# Altium footprint library OSC-SMD_4P-L3.2-W2.5-BL.PcbLib: 1 footprints
Each footprint in its own frame and in the unit in brackets; x right, y up, seen from the top. Pads: shape width x height; smd on the part's side, far side on the other; paste and mask are expansions set on the pad; w line width, h text height; cw(c..) or ccw(c..) is an arc to the next point about the centre after c.
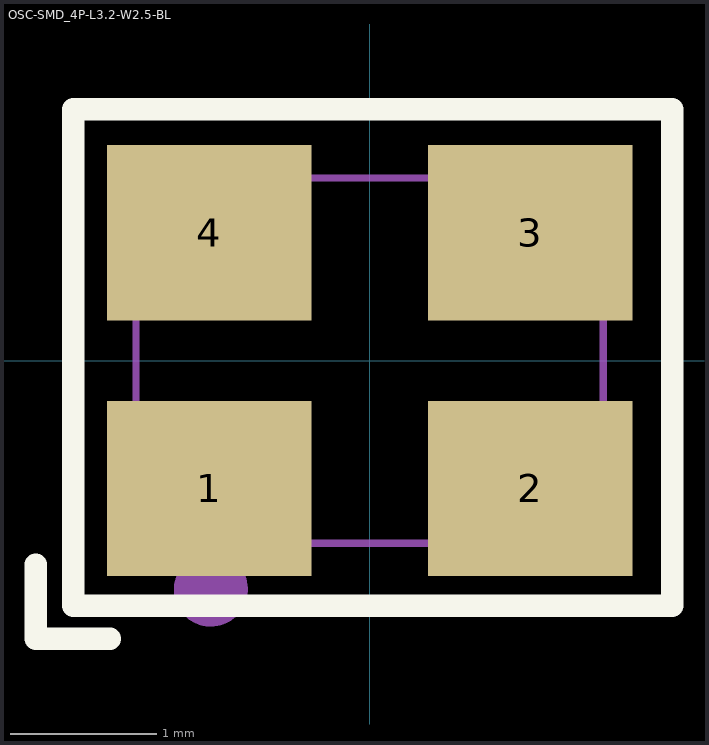
[diagram p0: the footprint, top view; thin cyan lines are the x and y axes]

## OSC-SMD_4P-L3.2-W2.5-BL [mm]
pads (4):
  rect 1.4x1.2 smd: 1(-1.1,-0.875) 2(1.1,-0.875) 3(1.1,0.875) 4(-1.1,0.875)
Top Overlay:
  lines w0.152: -2.286,-1.397 -2.286,-1.905 -1.778,-1.905 ; -2.029,-1.679 -2.029,1.721 2.071,1.721 2.071,-1.679 -2.029,-1.679
Mechanical 6:
  circle w0.254: c-1.088,-1.567 r0.127
  region: -1.486,-0.428 -1.45,-0.428 -1.45,-1.004 -1.486,-1.004
  region: -1.522,-0.428 -1.486,-0.428 -1.486,-1.004 -1.522,-1.004
  region: -1.558,-0.428 -1.522,-0.428 -1.522,-1.004 -1.558,-1.004
  region: -1.594,-0.464 -1.558,-0.464 -1.558,-1.004 -1.594,-1.004
  region: -1.63,-0.464 -1.594,-0.464 -1.594,-0.572 -1.63,-0.572
  region: -1.666,-0.5 -1.63,-0.5 -1.63,-0.608 -1.666,-0.608
  region: -1.702,-0.536 -1.666,-0.536 -1.666,-0.608 -1.702,-0.608
  region: -1.738,-0.536 -1.702,-0.536 -1.702,-0.608 -1.738,-0.608
  region: -1.206,1.206 -1.206,0.572 -1.079,0.572 -1.079,1.206
  region: -1.468,0.82 -0.833,0.82 -0.833,0.947 -1.468,0.947
Mechanical 15:
  region: -1.54,-1.25 -1.541,-1.226 -1.576,-1.192 -1.624,-1.192 -1.659,-1.226 -1.66,-1.25 -1.659,-1.274 -1.624,-1.307 -1.576,-1.307 -1.541,-1.274 -1.54,-1.25
  region: 0.6,1.249 1.5,1.249 1.5,0.449 0.6,0.449
  region: -1.5,1.249 -0.6,1.249 -0.6,0.449 -1.5,0.449
  region: -1.5,-0.449 -0.6,-0.449 -0.6,-1.249 -1.5,-1.249
  region: 0.6,-0.449 1.5,-0.449 1.5,-1.249 0.6,-1.249
  lines w0.051: -1.6,-1.25 -1.6,1.25 1.6,1.25 1.6,-1.25 -1.6,-1.25